# Altium schematic symbol library OPA277.SchLib: 1 symbol
Pins are listed as number, name and electrical type; pins without a type are passive.

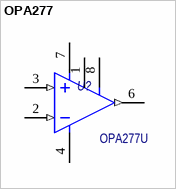
[diagram p0: symbol OPA277]

## OPA277
designator U?, comment OPA277U
High Precision operational amplifier; Потребление, Вт: 0.005; Назначение: High Precision operational amplifier; ComponentLink1Description: DataSheet; ComponentLink1URL: https://doc.softelectronics.ru/docs/op4/OPA2277.pdf; Наименование: OPA277U
footprint SOIC-8
pins: 1 Offset Trim (power), 2 -IN  (in), 3 +IN (in), 4 -V (power), 6 OUT (out), 7 -V (power), 8 Offset Trim (power)